# EAGLE library part ATXMEGA16D4/32D4/64D4/128D4 (library atmel-avr)
XMEGA D4 Microcontroller
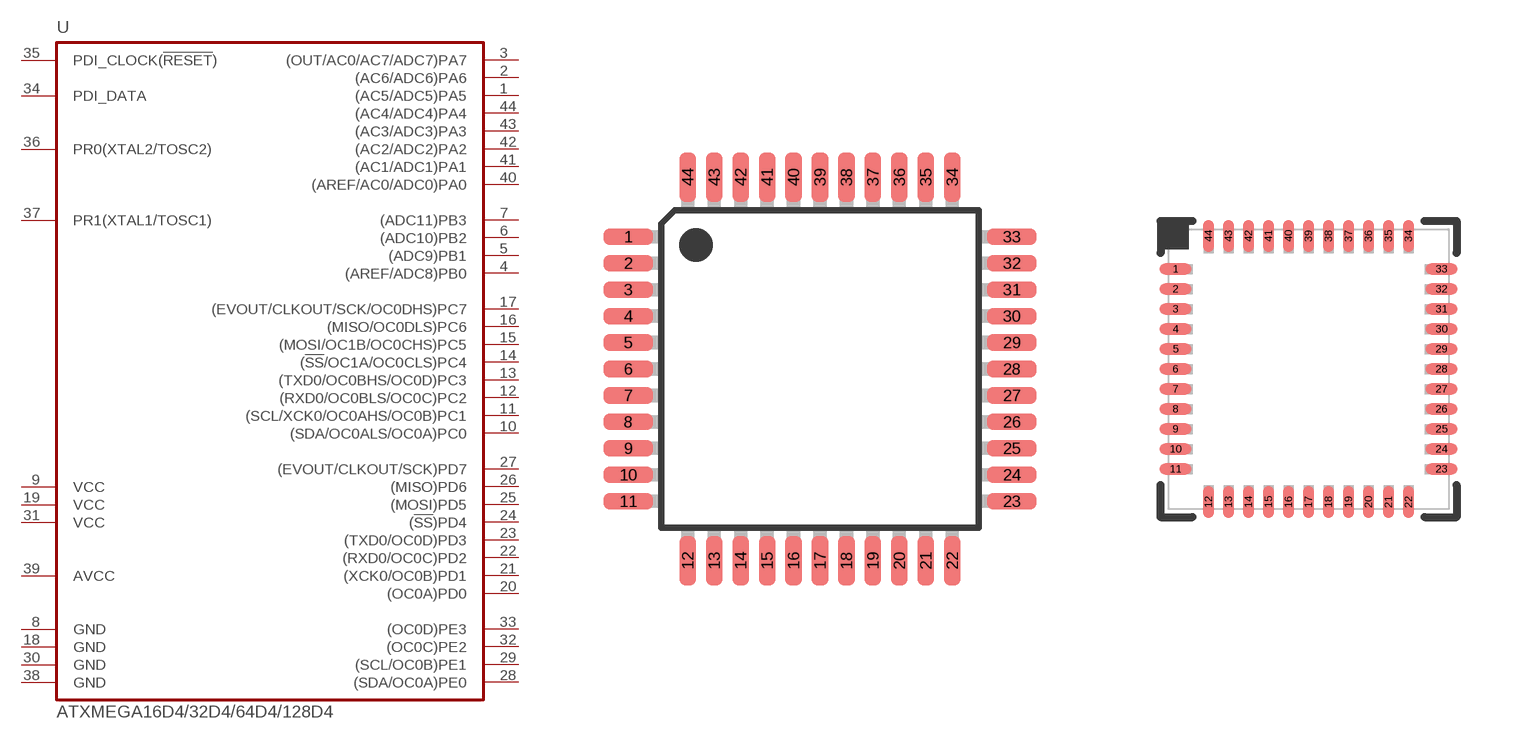
[diagram p17: symbol with the pads of TQFP44A; footprints TQFP44A, VQFN44M1]

Designator prefix U

## ATXMEGA16D4/32D4/64D4/128D4-A  [TQFP44A]
1  (AC5/ADC5)PA5
2  (AC6/ADC6)PA6
3  (OUT/AC0/AC7/ADC7)PA7
4  (AREF/ADC8)PB0
5  (ADC9)PB1
6  (ADC10)PB2
7  (ADC11)PB3
8  GND  pwr
9  VCC  pwr
10  (SDA/OC0ALS/OC0A)PC0
11  (SCL/XCK0/OC0AHS/OC0B)PC1
12  (RXD0/OC0BLS/OC0C)PC2
13  (TXD0/OC0BHS/OC0D)PC3
14  (!SS!/OC1A/OC0CLS)PC4
15  (MOSI/OC1B/OC0CHS)PC5
16  (MISO/OC0DLS)PC6
17  (EVOUT/CLKOUT/SCK/OC0DHS)PC7
18  GND  pwr
19  VCC  pwr
20  (OC0A)PD0
21  (XCK0/OC0B)PD1
22  (RXD0/OC0C)PD2
23  (TXD0/OC0D)PD3
24  (!SS!)PD4
25  (MOSI)PD5
26  (MISO)PD6
27  (EVOUT/CLKOUT/SCK)PD7
28  (SDA/OC0A)PE0
29  (SCL/OC0B)PE1
30  GND  pwr
31  VCC  pwr
32  (OC0C)PE2
33  (OC0D)PE3
34  PDI_DATA
35  PDI_CLOCK(!RESET!)  in
36  PR0(XTAL2/TOSC2)
37  PR1(XTAL1/TOSC1)
38  GND  pwr
39  AVCC  pwr
40  (AREF/AC0/ADC0)PA0
41  (AC1/ADC1)PA1
42  (AC2/ADC2)PA2
43  (AC3/ADC3)PA3
44  (AC4/ADC4)PA4

## ATXMEGA16D4/32D4/64D4/128D4-M1  [VQFN44M1]
Pads as for TQFP44A

## Footprint TQFP44A (pad centres in mm)
Thin Profile Plastic Quad Flat Package (TQFP) 44A, 44-lead, 10 x 10 mm Body Size, 1.0 mm Body Thickness, 0.8 mm Lead Pitch
smd 1.5 x 0.5: 1 -5.8,4; 2 -5.8,3.2; 3 -5.8,2.4; 4 -5.8,1.6; 5 -5.8,0.8; 6 -5.8,0; 7 -5.8,-0.8; 8 -5.8,-1.6; 9 -5.8,-2.4; 10 -5.8,-3.2; 11 -5.8,-4; 23 5.8,-4; 24 5.8,-3.2; 25 5.8,-2.4; 26 5.8,-1.6; 27 5.8,-0.8; 28 5.8,0; 29 5.8,0.8; 30 5.8,1.6; 31 5.8,2.4; 32 5.8,3.2; 33 5.8,4
smd 0.5 x 1.5: 12 -4,-5.8; 13 -3.2,-5.8; 14 -2.4,-5.8; 15 -1.6,-5.8; 16 -0.8,-5.8; 17 0,-5.8; 18 0.8,-5.8; 19 1.6,-5.8; 20 2.4,-5.8; 21 3.2,-5.8; 22 4,-5.8; 34 4,5.8; 35 3.2,5.8; 36 2.4,5.8; 37 1.6,5.8; 38 0.8,5.8; 39 0,5.8; 40 -0.8,5.8; 41 -1.6,5.8; 42 -2.4,5.8; 43 -3.2,5.8; 44 -4,5.8

## Footprint VQFN44M1 (pad centres in mm)
Plastic Very Thin Quad Flat NoLead Package (VQFN) 44M1, 44-pad, 7 x 7 x 1.0 mm Body, Lead Pitch 0.50 mm, 5.20 mm Exposed Pad, Thermally Enhanced
smd 0.8 x 0.28: 1 -3.325,2.5; 2 -3.325,2; 3 -3.325,1.5; 4 -3.325,1; 5 -3.325,0.5; 6 -3.325,0; 7 -3.325,-0.5; 8 -3.325,-1; 9 -3.325,-1.5; 10 -3.325,-2; 11 -3.325,-2.5; 23 3.325,-2.5; 24 3.325,-2; 25 3.325,-1.5; 26 3.325,-1; 27 3.325,-0.5; 28 3.325,0; 29 3.325,0.5; 30 3.325,1; 31 3.325,1.5; 32 3.325,2; 33 3.325,2.5
smd 0.28 x 0.8: 12 -2.5,-3.325; 13 -2,-3.325; 14 -1.5,-3.325; 15 -1,-3.325; 16 -0.5,-3.325; 17 0,-3.325; 18 0.5,-3.325; 19 1,-3.325; 20 1.5,-3.325; 21 2,-3.325; 22 2.5,-3.325; 34 2.5,3.325; 35 2,3.325; 36 1.5,3.325; 37 1,3.325; 38 0.5,3.325; 39 0,3.325; 40 -0.5,3.325; 41 -1,3.325; 42 -1.5,3.325; 43 -2,3.325; 44 -2.5,3.325